# Altium footprint library BSE_PCB_lib.PcbLib: 3 footprints
Each footprint in its own frame and in the unit in brackets; x right, y up, seen from the top. Pads: shape width x height; smd on the part's side, far side on the other; paste and mask are expansions set on the pad; w line width, h text height; cw(c..) or ccw(c..) is an arc to the next point about the centre after c.
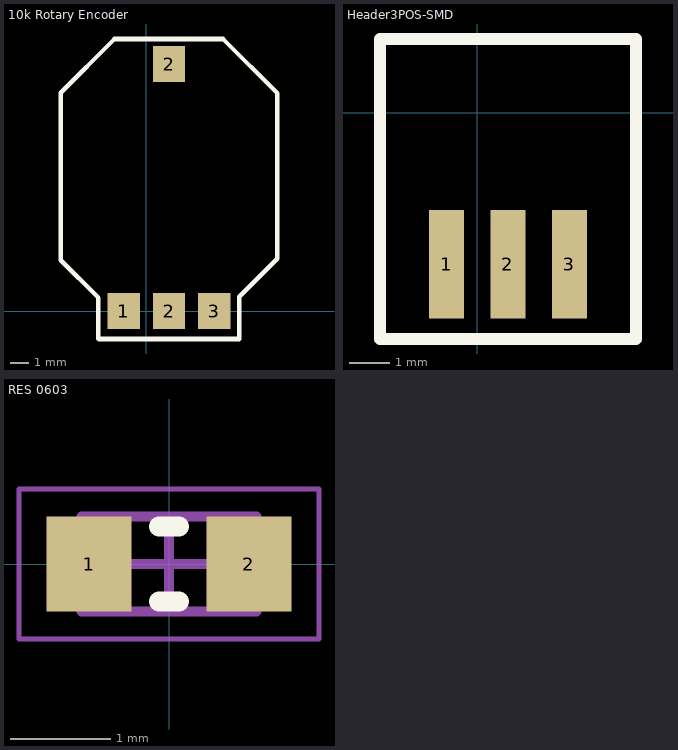
[diagram p0: the footprints below, top view; thin cyan lines are the x and y axes]

## 10k Rotary Encoder [mm]
pads (4):
  rect 1.8x2 smd: 1(-1.25,0) 2(1.25,0) 2(1.25,13.7) 3(3.75,0)
Top Overlay:
  lines w0.254: 4.25,15.1 4.25,15.1 ; 4.25,15.1 7.25,12.1 7.25,2.9 5.15,0.8 5.15,-1.55 -2.65,-1.55 -2.675,-1.525 -2.675,0.75 -4.75,2.825 -4.75,12.125 -1.8,15.075 -1.775,15.1 4.25,15.1
3D body "SV01A_smd.stp": height 2.16, standoff -0.99, extent -4.25,-0.625 6.75,14.275

## Header3POS-SMD [mm]
pads (3):
  rect 0.85x2.65 smd: 1(-0.75,-3.7) 2(0.75,-3.7) 3(2.25,-3.7)
Top Overlay:
  lines w0.3: -2.375,-5.525 3.875,-5.525 3.875,1.8 -2.375,1.8 -2.375,-5.525
3D body "874380343.stp": height 4.53, standoff 0.01, extent -2.15,-4.6 3.65,3.15

## RES 0603 [mm] "Chip Resistor, 2-Leads, Body 1.60x0.85mm, IPC Medium Density"
height 0.55
pads (2):
  rect 0.85x0.95 smd: 1(-0.8,0) 2(0.8,0)
Top Overlay:
  lines w0.2: -0.1,-0.375 0.1,-0.375 ; -0.1,0.375 0.1,0.375
Mechanical 13:
  lines w0.1: -0.875,-0.475 -0.875,0.475 0.875,0.475 0.875,-0.475 -0.875,-0.475
Mechanical 15:
  lines w0.05: -1.5,-0.75 -1.5,0.75 1.5,0.75 1.5,-0.75 -1.5,-0.75
  lines w0.1: -0.475,0 0.475,0 ; 0,-0.475 0,0.475
3D body "RESC1608X06N.step": height 0.55, standoff 0, extent -0.861,-0.508 0.889,0.442